# Altium schematic symbol library 68002-405HLF.SchLib: 1 symbol
Pins are listed as number, name and electrical type; pins without a type are passive.

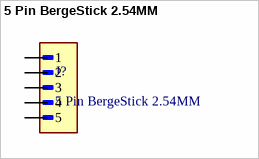
[diagram p0: symbol 5 Pin BergeStick 2.54MM]

## 5 Pin BergeStick 2.54MM
designator J?
5 Pin 5Pos THT BergeStick 2.54MM Amphenol68002-405HLF 3A; Package: None; Price: None; Value: *; MP: 68002-405HLF; Availability: Unavailable
footprint 5 Pin BergeStick 2.54MM (5 Pin 5Pos THT BergeStick 2.54MM Amphenol 68002-405HLF 3A AMPHENOL_68002-405HLF)
pins: 1, 2, 3, 4, 5